# EAGLE library part SMD_ICSP_HEADER (library SMD_ICSP_HEADER)
SMD In Circuit Serial Programmer header. .1" 2x3 header
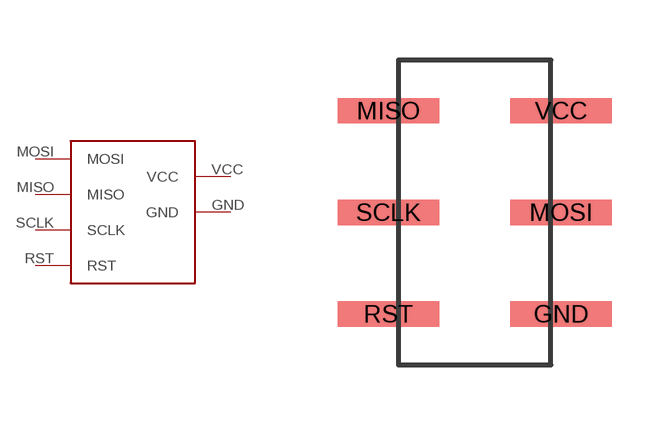
[diagram p0: symbol with the pads of SMD_ICSP_HEADER; footprint SMD_ICSP_HEADER]

Designator prefix -

## SMD_ICSP_HEADER  [SMD_ICSP_HEADER]
GND  GND  pwr
MISO  MISO
MOSI  MOSI
RST  RST
SCLK  SCLK
VCC  VCC  pwr

## Footprint SMD_ICSP_HEADER (pad centres in mm)
smd 2.54 x 0.635: GND 4.064,0; MISO -0.254,5.08; MOSI 4.064,2.54; RST -0.254,0; SCLK -0.254,2.54; VCC 4.064,5.08